# EAGLE library part TH_LIBRARIES_ADAFRUIT_ITSY_M0 (library easy_bee_counter)
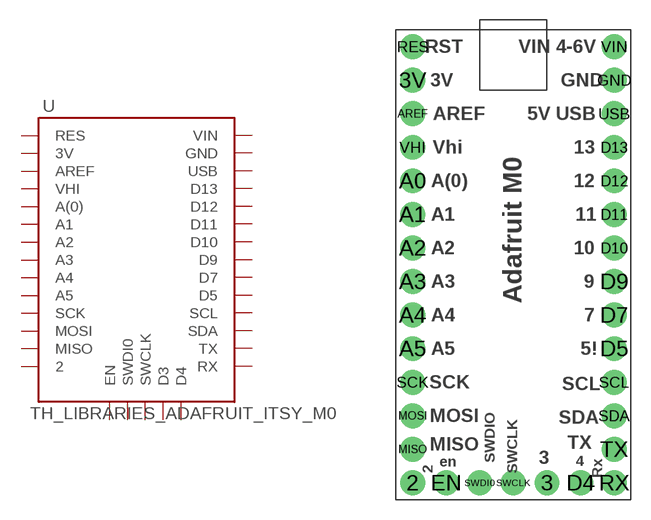
[diagram p1: symbol with the pads of TH_LIBRARIES_ADAFRUIT_ITS_M0; footprint TH_LIBRARIES_ADAFRUIT_ITS_M0]

Designator prefix -

## TH_LIBRARIES_ADAFRUIT_ITSY_M0  [TH_LIBRARIES_ADAFRUIT_ITS_M0]
2  2
3  D3
3V  3V
A0  A(0)
A1  A1
A2  A2
A3  A3
A4  A4
A5  A5
AREF  AREF
D4  D4
D5  D5
D7  D7
D9  D9
D10  D10
D11  D11
D12  D12
D13  D13
EN  EN
GND  GND
MISO  MISO
MOSI  MOSI
RES  RES
RX  RX
SCK  SCK
SCL  SCL
SDA  SDA
SWCLK  SWCLK
SWDI0  SWDI0
TX  TX
USB  USB
VHI  VHI
VIN  VIN

## Footprint TH_LIBRARIES_ADAFRUIT_ITS_M0 (pad centres in mm)
drill 1.016 pad 1.88: 2 -7.62,-12.7; 3 2.54,-12.7; 3V -7.62,17.78; A0 -7.62,10.16; A1 -7.62,7.62; A2 -7.62,5.08; A3 -7.62,2.54; A4 -7.62,0; A5 -7.62,-2.54; AREF -7.62,15.24; D4 5.08,-12.7; D5 7.62,-2.54; D7 7.62,0; D9 7.62,2.54; D10 7.62,5.08; D11 7.62,7.62; D12 7.62,10.16; D13 7.62,12.7; EN -5.08,-12.7; GND 7.62,17.78; MISO -7.62,-10.16; MOSI -7.62,-7.62; RES -7.62,20.32; RX 7.62,-12.7; SCK -7.62,-5.08; SCL 7.62,-5.08; SDA 7.62,-7.62; SWCLK 0,-12.7; SWDI0 -2.54,-12.7; TX 7.62,-10.16; USB 7.62,15.24; VHI -7.62,12.7; VIN 7.62,20.32